# EAGLE library part RS485_RCVR_ISL32612E (library leaf)
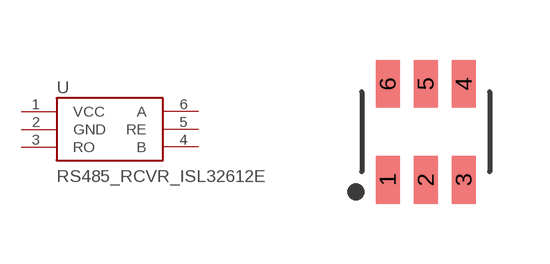
[diagram p7: symbol with the pads of SOT23-6_INTERSIL; footprint SOT23-6_INTERSIL]

Designator prefix U

## RS485_RCVR_ISL32612E  [SOT23-6_INTERSIL]
1  VCC
2  GND
3  RO
4  B
5  RE
6  A

## Footprint SOT23-6_INTERSIL (pad centres in mm)
smd 0.6 x 1.2: 1 -0.95,-1.2; 2 0,-1.2; 3 0.95,-1.2; 4 0.95,1.2; 5 0,1.2; 6 -0.95,1.2